# Altium footprint library RESC1608X045.PcbLib: 3 footprints
Each footprint in its own frame and in the unit in brackets; x right, y up, seen from the top. Pads: shape width x height; smd on the part's side, far side on the other; paste and mask are expansions set on the pad; w line width, h text height; cw(c..) or ccw(c..) is an arc to the next point about the centre after c.
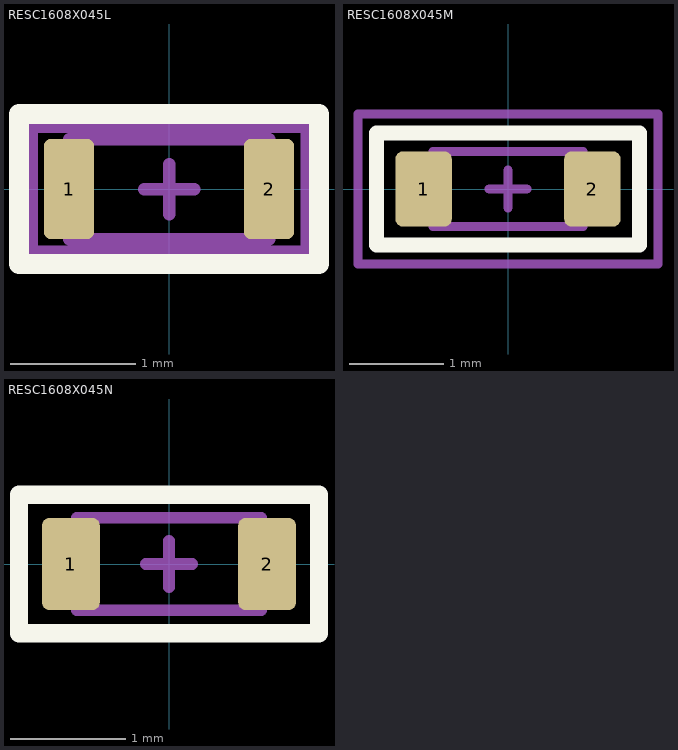
[diagram p0: the footprints below, top view; thin cyan lines are the x and y axes]

## RESC1608X045L [mm] "Resistors, Chip"
height 0.55
pads (2):
  rrect25% 0.4x0.8 smd: 1(-0.8,0) 2(0.8,0)
Top Overlay:
  lines w0.16: -1.2,-0.6 1.2,-0.6 1.2,0.6 -1.2,0.6 -1.2,-0.6
Top Component Center:
  lines w0.1: -0.2,0 0.2,0 ; 0,-0.2 0,0.2
Top Courtyard:
  lines w0.1: -1.1,-0.5 1.1,-0.5 1.1,0.5 -1.1,0.5 -1.1,-0.5
Top Assembly:
  lines w0.1: -0.8,-0.4 0.8,-0.4 0.8,0.4 -0.8,0.4 -0.8,-0.4
  text ".Designator" at 0,0 h1
3D body "RESC1608X045L.STEP": height 0.45, standoff 0, extent -0.8,-0.4 0.8,0.4

## RESC1608X045M [mm] "Resistors, Chip"
height 0.55
pads (2):
  rrect25% 0.6x0.8 smd: 1(-0.9,0) 2(0.9,0)
Top Overlay:
  lines w0.16: -1.4,-0.6 1.4,-0.6 1.4,0.6 -1.4,0.6 -1.4,-0.6
Top Component Center:
  lines w0.1: -0.2,0 0.2,0 ; 0,-0.2 0,0.2
Top Courtyard:
  lines w0.1: -1.6,-0.8 1.6,-0.8 1.6,0.8 -1.6,0.8 -1.6,-0.8
Top Assembly:
  lines w0.1: -0.8,-0.4 0.8,-0.4 0.8,0.4 -0.8,0.4 -0.8,-0.4
  text ".Designator" at 0,0 h1
3D body "RESC1608X045M.STEP": height 0.45, standoff 0, extent -0.8,-0.4 0.8,0.4

## RESC1608X045N [mm] "Resistors, Chip"
height 0.55
pads (2):
  rrect25% 0.5x0.8 smd: 1(-0.85,0) 2(0.85,0)
Top Overlay:
  lines w0.16: -1.3,-0.6 1.3,-0.6 1.3,0.6 -1.3,0.6 -1.3,-0.6
Top Component Center:
  lines w0.1: -0.2,0 0.2,0 ; 0,-0.2 0,0.2
Top Courtyard:
  lines w0.1: -1.3,-0.6 1.3,-0.6 1.3,0.6 -1.3,0.6 -1.3,-0.6
Top Assembly:
  lines w0.1: -0.8,-0.4 0.8,-0.4 0.8,0.4 -0.8,0.4 -0.8,-0.4
  text ".Designator" at 0,0 h1
3D body "RESC1608X045N.STEP": height 0.45, standoff 0, extent -0.8,-0.4 0.8,0.4